# Altium footprint library SJ1-3525NG.PcbLib: 1 footprints
Each footprint in its own frame and in the unit in brackets; x right, y up, seen from the top. Pads: shape width x height; smd on the part's side, far side on the other; paste and mask are expansions set on the pad; w line width, h text height; cw(c..) or ccw(c..) is an arc to the next point about the centre after c.
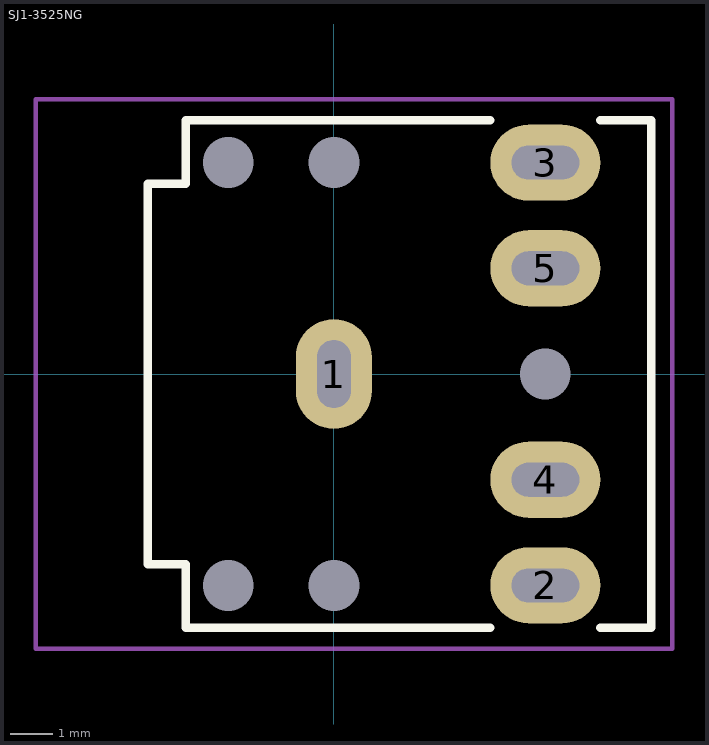
[diagram p0: the footprint, top view; thin cyan lines are the x and y axes]

## SJ1-3525NG [mm]
pads (10):
  oval 1.8x2.6 hole 0.8 slot 1.6 at 90 deg: 1(0,0)
  oval 2.6x1.8 hole 0.8 slot 1.6 at 0 deg: 2(5,-5) 3(5,5) 4(5,-2.5) 5(5,2.5)
  round 0.5 hole 1.2 unplated: ""(-2.5,-5) ""(-2.5,5) ""(0,-5) ""(0,5) ""(5,0)
Top Overlay:
  lines w0.2: 3.7,-6 -3.5,-6 -3.5,-4.5 -4.4,-4.5 -4.4,4.5 -3.5,4.5 -3.5,6 3.7,6 ; 6.3,-6 7.5,-6 7.5,6 6.3,6
Top Courtyard:
  lines w0.1: -7.05,-6.5 -7.05,6.5 8,6.5 8,-6.5 -3.5,-6.5 -7.05,-6.5
3D body "CUI_DEVICES_SJ1-3525NG-GR.step": height 5.6, standoff -3.2, extent -6.55,-6 7.5,6